# Altium footprint library CON HLE-110-02-x-DV-BE-A.PcbLib: 1 footprints
Each footprint in its own frame and in the unit in brackets; x right, y up, seen from the top. Pads: shape width x height; smd on the part's side, far side on the other; paste and mask are expansions set on the pad; w line width, h text height; cw(c..) or ccw(c..) is an arc to the next point about the centre after c.
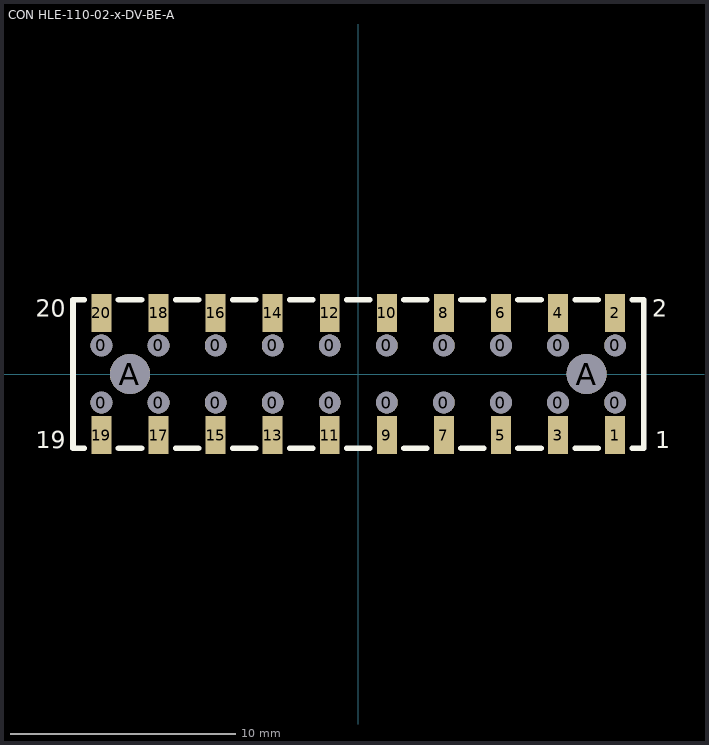
[diagram p0: the footprint, top view; thin cyan lines are the x and y axes]

## CON HLE-110-02-x-DV-BE-A [mil]
pads (42):
  round 38 hole 38 unplated: 0(-450,-50) 0(-450,50) 0(-350,-50) 0(-350,50) 0(-250,-50) 0(-250,50) 0(-150,-50) 0(-150,50) 0(-50,-50) 0(-50,50) 0(50,-50) 0(50,50) 0(150,-50) 0(150,50) 0(250,-50) 0(250,50) 0(350,-50) 0(350,50) 0(450,-50) 0(450,50)
  rect 35x66 smd: 1(450,-107) 2(450,107) 3(350,-107) 4(350,107) 5(250,-107) 6(250,107) 7(150,-107) 8(150,107) 9(50,-107) 10(50,107) 11(-50,-107) 12(-50,107) 13(-150,-107) 14(-150,107) 15(-250,-107) 16(-250,107) 17(-350,-107) 18(-350,107) 19(-450,-107) 20(-450,107)
  round 70 hole 70 unplated: A(-400,0) A(400,0)
Top Overlay:
  lines w10: -480,-130 -500,-130 -500,130 -480,130 ; -420,-130 -380,-130 ; -420,130 -380,130 ; -320,-130 -280,-130 ; -320,130 -280,130 ; -220,-130 -180,-130 ; -220,130 -180,130 ; -120,-130 -80,-130 ; -120,130 -80,130 ; -20,-130 20,-130 ; -20,130 20,130 ; 80,-130 120,-130 ; 80,130 120,130 ; 180,-130 220,-130 ; 180,130 220,130 ; 280,-130 320,-130 ; 280,130 320,130 ; 380,-130 420,-130 ; 380,130 420,130 ; 480,-130 500,-130 500,130 480,130
  text "19" at -565,-130 h30
  text "20" at -565,100 h30
  text "2" at 515,100 h30
  text "1" at 520,-130 h30
3D body: height 144.6, standoff -43.4, extent -500,-130 500,130